# Altium schematic symbol library BOUR-POT-3.SchLib: 1 symbol
Pins are listed as number, name and electrical type; pins without a type are passive.

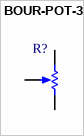
[diagram p0: symbol BOUR-POT-3]

## BOUR-POT-3
designator R?
pins: 1 CCW, 2 WIPER, 3 CW